# Altium integrated library ST Power Mgt Voltage Regulator.IntLib: 717 symbols (part 7 of 7)
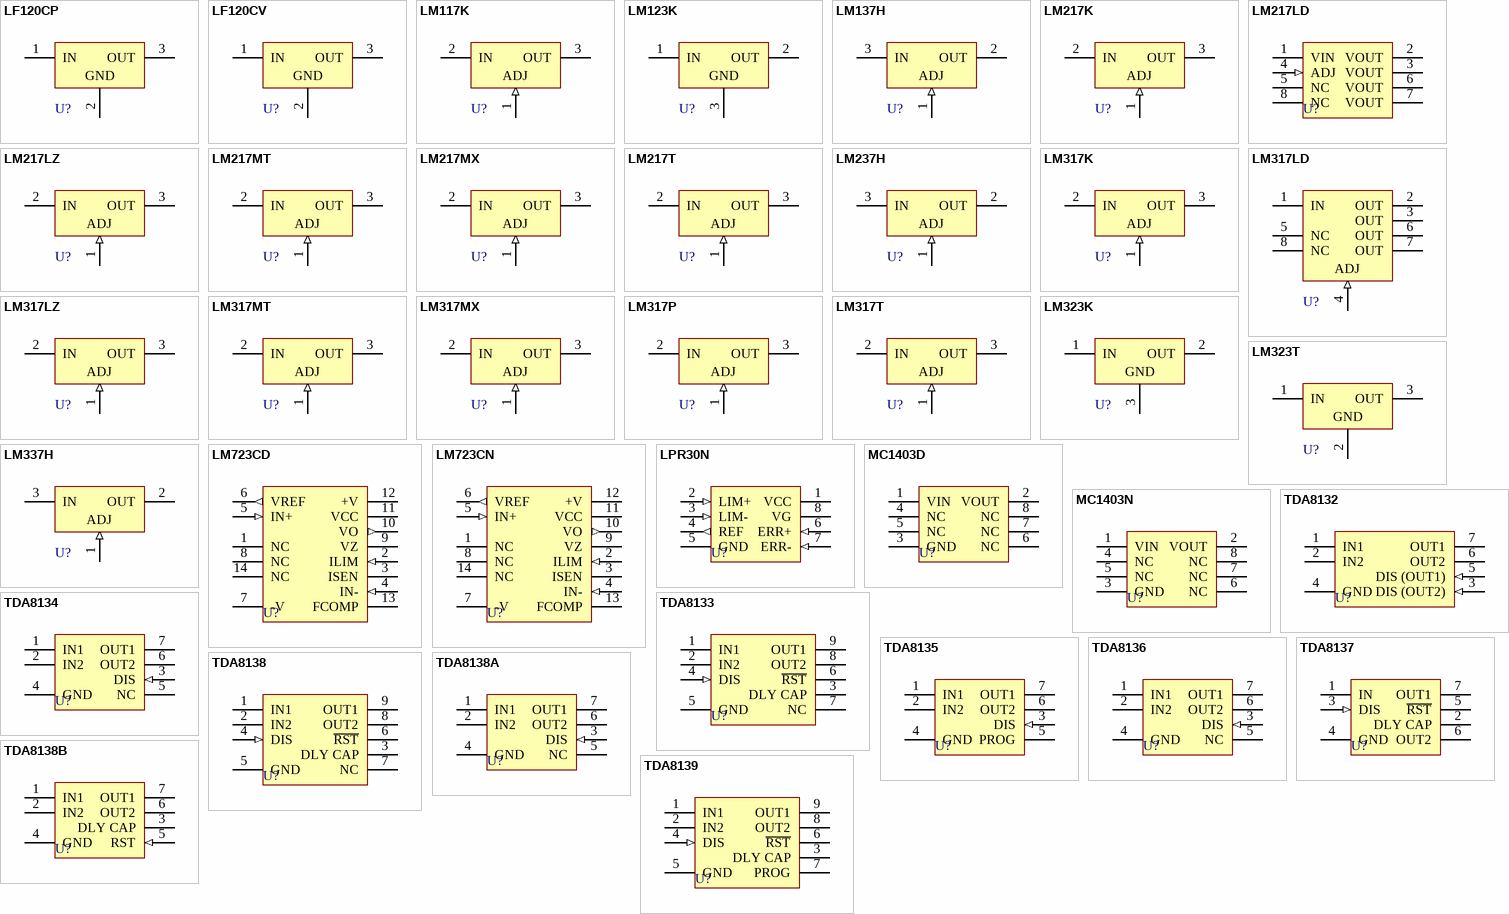
[diagram p23: symbols LF120CP to TDA8139]

## LF120CV
designator U?
Very Low Drop Voltage Regulator with Inhibit; Published: 24-Aug-2001; LatestRevisionDate: 17-Jul-2002; LatestRevisionNote: Re-released for DXP Platform.; DatasheetDocument: Jul-1999; PackageReference: TO220V; Publisher: Altium Limited
footprint TO220V (TO, Thru-Hole, Vertical, Heatsink Mounted; 3 In-Line Leads; Pitch 2.54 mm; Pin sequence 1, 3, 2)
pins: 1 IN (power), 2 GND (power), 3 OUT (power)

## LM117K
designator U?
1.2V to 37V Voltage Regulator; Published: 24-Aug-2001; LatestRevisionDate: 17-Jul-2002; LatestRevisionNote: Re-released for DXP Platform.; DatasheetDocument: Nov-1999; PackageReference: TO-3R; Publisher: Altium Limited
footprint TO-3R (Oval Flange Mount with (2) Offset Leads; Pin Spacing 10.92 mm; Lead Dia. 1.1 mm (max))
pins: 1 ADJ (in), 2 IN (power), 3 OUT (power)

## LM123K
designator U?
Three Terminal 3A-5V Positive Voltage Regulator; Note: Case is GND.; Published: 24-Aug-2001; LatestRevisionDate: 17-Jul-2002; LatestRevisionNote: Re-released for DXP Platform.; DatasheetDocument: Mar-1993; PackageReference: TO-3; Publisher: Altium Limited
footprint TO-3 (Oval Flange Mount with (2) Offset Leads; Pin Spacing 10.92 mm; Lead Dia. 1.15 mm (max))
pins: 1 IN (power), 2 OUT (power), 3 GND (power)

## LM137H
designator U?
Three-Terminal Adjustable Negative Voltage Regulator; Published: 24-Aug-2001; LatestRevisionDate: 17-Jul-2002; LatestRevisionNote: Re-released for DXP Platform.; DatasheetDocument: Mar-1993; PackageReference: TO-39; Publisher: Altium Limited
footprint TO-39 (Can; 3 Leads; Pin Circle Dia. 5.08 mm; Lead Dia. 0.49 mm (max))
pins: 1 ADJ (in), 2 OUT (power), 3 IN (power)

## LM217K
designator U?
1.2V to 37V Voltage Regulator; Published: 24-Aug-2001; LatestRevisionDate: 17-Jul-2002; LatestRevisionNote: Re-released for DXP Platform.; DatasheetDocument: Nov-1999; PackageReference: TO-3R; Publisher: Altium Limited
footprint TO-3R (Oval Flange Mount with (2) Offset Leads; Pin Spacing 10.92 mm; Lead Dia. 1.1 mm (max))
pins: 1 ADJ (in), 2 IN (power), 3 OUT (power)

## LM217LD
designator U?
Low-Current 1.2V to 37V Voltage Regulator; Published: 24-Aug-2001; LatestRevisionDate: 17-Jul-2002; LatestRevisionNote: Re-released for DXP Platform.; DatasheetDocument: Apr-1994; PackageDocument: Jul-1998; PackageReference: SO8; Publisher: Altium Limited; Code_JEDEC: MS-012-AA; Code_IPC: SO8
footprint SO8 (Small Outline; 8 Leads; Body Width 3.9 mm; Pitch 1.27 mm)
pins: 1 VIN (power), 2 VOUT (power), 3 VOUT (power), 4 ADJ (in), 5 NC, 6 VOUT (power), 7 VOUT (power), 8 NC

## LM217LZ
designator U?
Low-Current 1.2V to 37V Voltage Regulator; Published: 24-Aug-2001; LatestRevisionDate: 17-Jul-2002; LatestRevisionNote: Re-released for DXP Platform.; DatasheetDocument: Apr-1994; PackageReference: TO92-132; Publisher: Altium Limited
footprint TO92-132 (TO, Flat Index; 3 In-Line, Axial Leads; Body Dia. 4.8mm; Leads 0.51 x 0.51 mm (max))
pins: 1 ADJ (in), 2 IN (power), 3 OUT (power)

## LM217MT
designator U?
Medium Current 1.2V to 37V Adjustable Voltage Regulator; Note: Tab is connected to pin 3 (OUT).; Published: 24-Aug-2001; LatestRevisionDate: 17-Jul-2002; LatestRevisionNote: Re-released for DXP Platform.; DatasheetDocument: Sep-1997; PackageReference: TO220V; Publisher: Altium Limited
footprint TO220V (TO, Thru-Hole, Vertical, Heatsink Mounted; 3 In-Line Leads; Pitch 2.54 mm; Pin sequence 1, 3, 2)
pins: 1 ADJ (in), 2 IN (power), 3 OUT (power)

## LM217MX
designator U?
Medium Current 1.2V to 37V Adjustable Voltage Regulator; Published: 24-Aug-2001; LatestRevisionDate: 17-Jul-2002; LatestRevisionNote: Re-released for DXP Platform.; DatasheetDocument: Sep-1997; PackageReference: SOT82C; Publisher: Altium Limited
footprint SOT82C (SIP; 3 Leads; Body 10.9 x 7.6 x 2.6 mm (typ); Pitch 2.2 mm)
pins: 1 ADJ (in), 2 IN (power), 3 OUT (power)

## LM217T
designator U?
1.2V to 37V Voltage Regulator; Note: Tab is connected to pin 3 (OUT).; Published: 24-Aug-2001; LatestRevisionDate: 17-Jul-2002; LatestRevisionNote: Re-released for DXP Platform.; DatasheetDocument: Nov-1999; PackageDocument: Jun-1998; PackageReference: TO220ABN; Publisher: Altium Limited
footprint TO220ABN (TO, Thru-Hole, Vertical, Heatsink Mounted; 3 In-Line Leads; Pitch 2.54 mm; Pin sequence 1, 3, 2)
pins: 1 ADJ (in), 2 IN (power), 3 OUT (power)

## LM237H
designator U?
Three-Terminal Adjustable Negative Voltage Regulator; Published: 24-Aug-2001; LatestRevisionDate: 17-Jul-2002; LatestRevisionNote: Re-released for DXP Platform.; DatasheetDocument: Mar-1993; PackageReference: TO-39; Publisher: Altium Limited
footprint TO-39 (Can; 3 Leads; Pin Circle Dia. 5.08 mm; Lead Dia. 0.49 mm (max))
pins: 1 ADJ (in), 2 OUT (power), 3 IN (power)

## LM317K
designator U?
1.2V to 37V Voltage Regulator; Published: 24-Aug-2001; LatestRevisionDate: 17-Jul-2002; LatestRevisionNote: Re-released for DXP Platform.; DatasheetDocument: Nov-1999; PackageReference: TO-3R; Publisher: Altium Limited
footprint TO-3R (Oval Flange Mount with (2) Offset Leads; Pin Spacing 10.92 mm; Lead Dia. 1.1 mm (max))
pins: 1 ADJ (in), 2 IN (power), 3 OUT (power)

## LM317LD
designator U?
Low-Current 1.2V to 37V Voltage Regulator; Published: 24-Aug-2001; LatestRevisionDate: 17-Jul-2002; LatestRevisionNote: Re-released for DXP Platform.; DatasheetDocument: Apr-1994; PackageDocument: Jul-1998; PackageReference: SO8; Publisher: Altium Limited; Code_JEDEC: MS-012-AA; Code_IPC: SO8
footprint SO8 (Small Outline; 8 Leads; Body Width 3.9 mm; Pitch 1.27 mm)
pins: 1 IN (power), 2 OUT (power), 3 OUT (power), 4 ADJ (in), 5 NC, 6 OUT (power), 7 OUT (power), 8 NC

## LM317LZ
designator U?
Low-Current 1.2V to 37V Voltage Regulator; Published: 24-Aug-2001; LatestRevisionDate: 17-Jul-2002; LatestRevisionNote: Re-released for DXP Platform.; DatasheetDocument: Apr-1994; PackageReference: TO92-132; Publisher: Altium Limited
footprint TO92-132 (TO, Flat Index; 3 In-Line, Axial Leads; Body Dia. 4.8mm; Leads 0.51 x 0.51 mm (max))
pins: 1 ADJ (in), 2 IN (power), 3 OUT (power)

## LM317MT
designator U?
Medium Current 1.2V to 37V Adjustable Voltage Regulator; Note: Tab is connected to pin 3 (OUT).; Published: 24-Aug-2001; LatestRevisionDate: 17-Jul-2002; LatestRevisionNote: Re-released for DXP Platform.; DatasheetDocument: Sep-1997; PackageReference: TO220V; Publisher: Altium Limited
footprint TO220V (TO, Thru-Hole, Vertical, Heatsink Mounted; 3 In-Line Leads; Pitch 2.54 mm; Pin sequence 1, 3, 2)
pins: 1 ADJ (in), 2 IN (power), 3 OUT (power)

## LM317MX
designator U?
Medium Current 1.2V to 37V Adjustable Voltage Regulator; Published: 24-Aug-2001; LatestRevisionDate: 17-Jul-2002; LatestRevisionNote: Re-released for DXP Platform.; DatasheetDocument: Sep-1997; PackageReference: SOT82C; Publisher: Altium Limited
footprint SOT82C (SIP; 3 Leads; Body 10.9 x 7.6 x 2.6 mm (typ); Pitch 2.2 mm)
pins: 1 ADJ (in), 2 IN (power), 3 OUT (power)

## LM317P
designator U?
1.2V to 37V Voltage Regulator; Note: Tab is connected to pin 3 (OUT).; Published: 24-Aug-2001; LatestRevisionDate: 17-Jul-2002; LatestRevisionNote: Re-released for DXP Platform.; DatasheetDocument: Nov-1999; PackageDocument: Jul-1998; PackageReference: ISOWATT220AB; Publisher: Altium Limited
footprint ISOWATT220AB (TO, Thru-Hole, Vertical, Heatsink Mounted; 3 In-Line Leads; Pitch 2.54 mm; Pin sequence 1, 3, 2)
pins: 1 ADJ (in), 2 IN (power), 3 OUT (power)

## LM317T
designator U?
1.2V to 37V Voltage Regulator; Note: Tab is connected to pin 3 (OUT).; Published: 24-Aug-2001; LatestRevisionDate: 17-Jul-2002; LatestRevisionNote: Re-released for DXP Platform.; DatasheetDocument: Nov-1999; PackageDocument: Jun-1998; PackageReference: TO220ABN; Publisher: Altium Limited
footprint TO220ABN (TO, Thru-Hole, Vertical, Heatsink Mounted; 3 In-Line Leads; Pitch 2.54 mm; Pin sequence 1, 3, 2)
pins: 1 ADJ (in), 2 IN (power), 3 OUT (power)

## LM323K
designator U?
Three Terminal 3A-5V Positive Voltage Regulator; Note: Case is GND.; Published: 24-Aug-2001; LatestRevisionDate: 17-Jul-2002; LatestRevisionNote: Re-released for DXP Platform.; DatasheetDocument: Mar-1993; PackageReference: TO-3; Publisher: Altium Limited
footprint TO-3 (Oval Flange Mount with (2) Offset Leads; Pin Spacing 10.92 mm; Lead Dia. 1.15 mm (max))
pins: 1 IN (power), 2 OUT (power), 3 GND (power)

## LM323T
designator U?
Three Terminal 3A-5V Positive Voltage Regulator; Published: 24-Aug-2001; LatestRevisionDate: 17-Jul-2002; LatestRevisionNote: Re-released for DXP Platform.; DatasheetDocument: Mar-1993; PackageDocument: Jun-1998; PackageReference: TO220ABN; Publisher: Altium Limited
footprint TO220ABN (TO, Thru-Hole, Vertical, Heatsink Mounted; 3 In-Line Leads; Pitch 2.54 mm; Pin sequence 1, 3, 2)
pins: 1 IN (power), 2 GND (power), 3 OUT (power)

## LM337H
designator U?
Three-Terminal Adjustable Negative Voltage Regulator; Published: 24-Aug-2001; LatestRevisionDate: 17-Jul-2002; LatestRevisionNote: Re-released for DXP Platform.; DatasheetDocument: Mar-1993; PackageReference: TO-39; Publisher: Altium Limited
footprint TO-39 (Can; 3 Leads; Pin Circle Dia. 5.08 mm; Lead Dia. 0.49 mm (max))
pins: 1 ADJ (in), 2 OUT (power), 3 IN (power)

## LM723CD
designator U?
High-Precision Voltage Regulator; Published: 24-Aug-2001; LatestRevisionDate: 17-Jul-2002; LatestRevisionNote: Re-released for DXP Platform.; DatasheetDocument: Sep-1998; PackageDocument: Sep-1998; PackageReference: SO14; Publisher: Altium Limited
footprint SO14 (Small Outline; 14 Leads; Body Width 3.9 mm; Pitch 1.27 mm)
pins: 1 NC, 2 ILIM (in), 3 ISEN, 4 IN- (in), 5 IN+ (in), 6 VREF (out), 7 -V (power), 8 NC, 9 VZ, 10 VO (out), 11 VCC (power), 12 +V (power), 13 FCOMP, 14 NC

## LM723CN
designator U?
High-Precision Voltage Regulator; Published: 24-Aug-2001; LatestRevisionDate: 17-Jul-2002; LatestRevisionNote: Re-released for DXP Platform.; DatasheetDocument: Sep-1998; PackageDocument: Jan-1997; PackageReference: DIP14; Publisher: Altium Limited
footprint DIP14 (DIP; 14 Leads; Row Spacing 7.62 mm; Pitch 2.54 mm)
pins: 1 NC, 2 ILIM (in), 3 ISEN, 4 IN- (in), 5 IN+ (in), 6 VREF (out), 7 -V (power), 8 NC, 9 VZ, 10 VO (out), 11 VCC (power), 12 +V (power), 13 FCOMP, 14 NC

## LPR30N
designator U?
Low Drop Voltage Regulator Drive for External N-Channel Power MOSFET; Published: 24-Aug-2001; LatestRevisionDate: 17-Jul-2002; LatestRevisionNote: Re-released for DXP Platform.; DatasheetDocument: Jun-1997; PackageDocument: Sep-1988; PackageReference: MDIP8; Publisher: Altium Limited
footprint MDIP8 (DIP; 8 Leads; Row Spacing 7.62 mm; Pitch 2.54 mm)
pins: 1 VCC (power), 2 LIM+ (in), 3 LIM- (in), 4 REF (out), 5 GND (power), 6 ERR+ (in), 7 ERR- (in), 8 VG (oc)

## MC1403D
designator U?
2.5V Precision Serial Voltage Refrence; Published: 24-Aug-2001; LatestRevisionDate: 17-Jul-2002; LatestRevisionNote: Re-released for DXP Platform.; DatasheetDocument: Oct-1997; PackageDocument: Jul-1998; PackageReference: SO8; Publisher: Altium Limited; Code_JEDEC: MS-012-AA; Code_IPC: SO8
footprint SO8 (Small Outline; 8 Leads; Body Width 3.9 mm; Pitch 1.27 mm)
pins: 1 VIN (power), 2 VOUT (power), 3 GND (power), 4 NC, 5 NC, 6 NC, 7 NC, 8 NC

## MC1403N
designator U?
2.5V Precision Serial Voltage Refrence; Published: 24-Aug-2001; LatestRevisionDate: 17-Jul-2002; LatestRevisionNote: Re-released for DXP Platform.; DatasheetDocument: Oct-1997; PackageReference: DIP8; Publisher: Altium Limited; Code_JEDEC: MO-001-AN
footprint DIP8 (DIP; 8 Leads; Row Spacing 7.62 mm; Pitch 2.54 mm)
pins: 1 VIN (power), 2 VOUT (power), 3 GND (power), 4 NC, 5 NC, 6 NC, 7 NC, 8 NC

## TDA8132
designator U?
5.1V + 12V Disable Voltage regulator; Note: Tab is connected to pin 4 (GND).; Published: 24-Aug-2001; LatestRevisionDate: 17-Jul-2002; LatestRevisionNote: Re-released for DXP Platform.; DatasheetDocument: Jan-1996; PackageDocument: Jan-1995; PackageReference: HEPTAWATT7; Publisher: Altium Limited
footprint HEPTAWATT7 (TO, Thru-Hole, Vertical, Heatsink Mounted; 7 Bent Staggered Leads; Pitch 1.27 mm)
pins: 1 IN1 (power), 2 IN2 (power), 3 DIS (OUT2) (in), 4 GND (power), 5 DIS (OUT1) (in), 6 OUT2 (power), 7 OUT1 (power)

## TDA8133
designator U?
5.1V + 8V Regulator with Disable and Reset; Note: Tab is connected to pin 5 (GND).; Published: 24-Aug-2001; LatestRevisionDate: 17-Jul-2002; LatestRevisionNote: Re-released for DXP Platform.; DatasheetDocument: Mar-1994; PackageDocument: Oct-1997; PackageReference: SIP9; Publisher: Altium Limited
footprint SIP9 (TO, Thru-Hole, Vertical, Heatsink Mounted; 9 In-Line Leads; Pitch 2.54 mm)
pins: 1 IN1 (power), 2 IN2 (power), 3 DLY CAP, 4 DIS (in), 5 GND (power), 6 ~{RST} (oc), 7 NC, 8 OUT2 (power), 9 OUT1 (power)

## TDA8134
designator U?
5V +12V Regulator with Disable; Note: Tab is connected to pin 4 (GND).; Published: 24-Aug-2001; LatestRevisionDate: 17-Jul-2002; LatestRevisionNote: Re-released for DXP Platform.; DatasheetDocument: Sep-1993; PackageDocument: Jan-1995; PackageReference: HEPTAWATT7; Publisher: Altium Limited
footprint HEPTAWATT7 (TO, Thru-Hole, Vertical, Heatsink Mounted; 7 Bent Staggered Leads; Pitch 1.27 mm)
pins: 1 IN1 (power), 2 IN2 (power), 3 DIS (in), 4 GND (power), 5 NC, 6 OUT2 (power), 7 OUT1 (power)

## TDA8135
designator U?
5V +Adjustable Voltage Regulator with Disable; Note: Tab is connected to pin 4 (GND).; Published: 24-Aug-2001; LatestRevisionDate: 17-Jul-2002; LatestRevisionNote: Re-released for DXP Platform.; DatasheetDocument: Sep-1993; PackageDocument: Jan-1995; PackageReference: HEPTAWATT7; Publisher: Altium Limited
footprint HEPTAWATT7 (TO, Thru-Hole, Vertical, Heatsink Mounted; 7 Bent Staggered Leads; Pitch 1.27 mm)
pins: 1 IN1 (power), 2 IN2 (power), 3 DIS (in), 4 GND (power), 5 PROG, 6 OUT2 (power), 7 OUT1 (power)

## TDA8136
designator U?
Dual 12V Regulator with Disable; Note: Tab is connected to pin 4 (GND).; Published: 24-Aug-2001; LatestRevisionDate: 17-Jul-2002; LatestRevisionNote: Re-released for DXP Platform.; DatasheetDocument: Sep-1993; PackageDocument: Jan-1995; PackageReference: HEPTAWATT7; Publisher: Altium Limited
footprint HEPTAWATT7 (TO, Thru-Hole, Vertical, Heatsink Mounted; 7 Bent Staggered Leads; Pitch 1.27 mm)
pins: 1 IN1 (power), 2 IN2 (power), 3 DIS (in), 4 GND (power), 5 NC, 6 OUT2 (power), 7 OUT1 (power)

## TDA8137
designator U?
Dual 5.1V Regulator with Disable and Reset; Note: Tab is connected to pin 4 (GND).; Published: 24-Aug-2001; LatestRevisionDate: 17-Jul-2002; LatestRevisionNote: Re-released for DXP Platform.; DatasheetDocument: Sep-1993; PackageDocument: Jan-1995; PackageReference: HEPTAWATT7; Publisher: Altium Limited
footprint HEPTAWATT7 (TO, Thru-Hole, Vertical, Heatsink Mounted; 7 Bent Staggered Leads; Pitch 1.27 mm)
pins: 1 IN (power), 2 DLY CAP, 3 DIS (in), 4 GND (power), 5 ~{RST} (oc), 6 OUT2 (power), 7 OUT1 (power)

## TDA8138
designator U?
5.1V + 12V Regulator with Disable and Reset; Note: Tab is connected to pin 5 (GND).; Published: 24-Aug-2001; LatestRevisionDate: 17-Jul-2002; LatestRevisionNote: Re-released for DXP Platform.; DatasheetDocument: May-1993; PackageDocument: Oct-1997; PackageReference: SIP9; Publisher: Altium Limited
footprint SIP9 (TO, Thru-Hole, Vertical, Heatsink Mounted; 9 In-Line Leads; Pitch 2.54 mm)
pins: 1 IN1 (power), 2 IN2 (power), 3 DLY CAP, 4 DIS (in), 5 GND (power), 6 ~{RST} (oc), 7 NC, 8 OUT2 (power), 9 OUT1 (power)

## TDA8138A
designator U?
5.1V + 12V Regulator with Disable and Reset; Note: Tab is connected to pin 4 (GND).; Published: 24-Aug-2001; LatestRevisionDate: 17-Jul-2002; LatestRevisionNote: Re-released for DXP Platform.; DatasheetDocument: May-1993; PackageDocument: Jan-1995; PackageReference: HEPTAWATT7; Publisher: Altium Limited
footprint HEPTAWATT7 (TO, Thru-Hole, Vertical, Heatsink Mounted; 7 Bent Staggered Leads; Pitch 1.27 mm)
pins: 1 IN1 (power), 2 IN2 (power), 3 DIS (in), 4 GND (power), 5 NC, 6 OUT2 (power), 7 OUT1 (power)

## TDA8138B
designator U?
5.1V + 12V Regulator with Disable and Reset; Note: Tab is connected to pin 4 (GND).; Published: 24-Aug-2001; LatestRevisionDate: 17-Jul-2002; LatestRevisionNote: Re-released for DXP Platform.; DatasheetDocument: May-1993; PackageDocument: Jan-1995; PackageReference: HEPTAWATT7; Publisher: Altium Limited
footprint HEPTAWATT7 (TO, Thru-Hole, Vertical, Heatsink Mounted; 7 Bent Staggered Leads; Pitch 1.27 mm)
pins: 1 IN1 (power), 2 IN2 (power), 3 DLY CAP, 4 GND (power), 5 RST (in), 6 OUT2 (power), 7 OUT1 (power)

## TDA8139
designator U?
5.1V and Adjustable Voltage Regulator with Disable and Reset; Note: Tab is connected to pin 5 (GND).; Published: 24-Aug-2001; LatestRevisionDate: 17-Jul-2002; LatestRevisionNote: Re-released for DXP Platform.; DatasheetDocument: Sep-1993; PackageDocument: Oct-1997; PackageReference: SIP9; Publisher: Altium Limited
footprint SIP9 (TO, Thru-Hole, Vertical, Heatsink Mounted; 9 In-Line Leads; Pitch 2.54 mm)
pins: 1 IN1 (power), 2 IN2 (power), 3 DLY CAP, 4 DIS (in), 5 GND (power), 6 ~{RST} (oc), 7 PROG, 8 OUT2 (power), 9 OUT1 (power)